# EAGLE library part SLA5086 (library arcaduinome)
SLA5086 The Sanken SLA5086 has five P-Channel Enhancement MOSFETs. The Source of all five transistors are connected together.
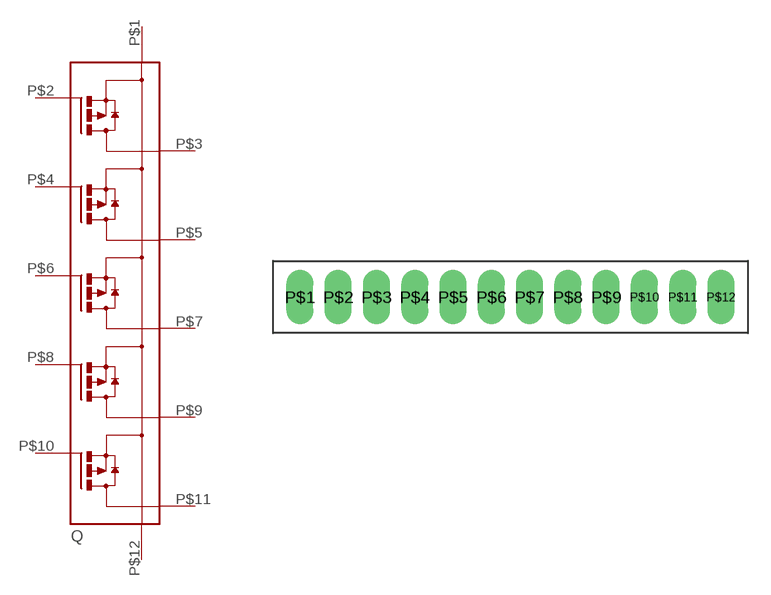
[diagram p0: symbol with the pads of SLA12; footprint SLA12]

Designator prefix Q

## SLA5086  [SLA12]
P$1  S  pas
P$2  G$1  pas
P$3  D$1  pas
P$4  G$2  pas
P$5  D$2  pas
P$6  G$3  pas
P$7  D$3  pas
P$8  G$4  pas
P$9  D$4  pas
P$10  G$5  pas
P$11  D$5  pas
P$12  S  pas

## Footprint SLA12 (pad centres in mm)
SLA12 The SLA12 is a SIP12 package for the Sanken SLA5086. Dimensions are from this datasheet: http://www.sanken-ele.co.jp/en/prod/semicon/pdf/arraye.pdf
drill 1.2 long: P$1 -13.97,0; P$2 -11.43,0; P$3 -8.89,0; P$4 -6.35,0; P$5 -3.81,0; P$6 -1.27,0; P$7 1.27,0; P$8 3.81,0; P$9 6.35,0; P$10 8.89,0; P$11 11.43,0; P$12 13.97,0